# EAGLE library part UJ20-C-H-G-MSMT-R-4C-P16-TR (library UJ20-C-H-G-MSMT-R-4C-P16-TR)
UJ20-C-H-G-MSMT-R-4C-P16-TR - Type C, USB 2.0, 480 Mbps, 20 Vdc, 3 A, Horizontal, Mid Mount SMT, SMT Contacts, Gold Flash, Recessed Lip, 16 Pins, Ultra Low Profile 1.56mm, USB Receptacle Source: Datasheet <https://www.sameskydevices.com/product/resource/uj20-c-h-g-msmt-r-4c-p16-tr.pdf>
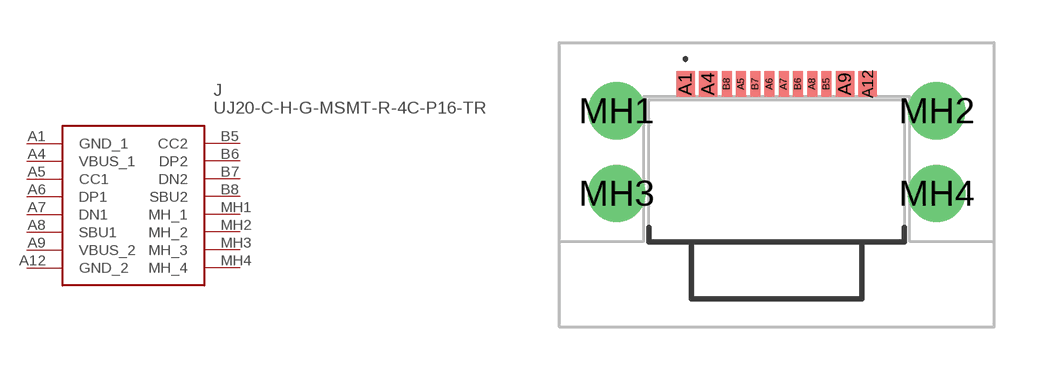
[diagram p0: symbol with the pads of UJ20CHGMSMTR4CP16TR; footprint UJ20CHGMSMTR4CP16TR]

Designator prefix J

## UJ20-C-H-G-MSMT-R-4C-P16-TR (Description: UJ20-C-H-G-MSMT-R-4C-P16-TR - Type C, USB 2.0, 480 Mbps, 20 Vdc, 3 A, Horizontal, Mid Mount SMT, SMT Contacts, Gold Flash, Recessed Lip, 16 Pins, Ultra Low Profile 1.56mm, USB Receptacle; Height: 3.36mm; Manufacturer_Name: Same Sky; Manufacturer_Part_Number: UJ20-C-H-G-MSMT-R-4C-P16-TR)  [UJ20CHGMSMTR4CP16TR]
A1  GND_1
A4  VBUS_1
A5  CC1
A6  DP1
A7  DN1
A8  SBU1
A9  VBUS_2
A12  GND_2
B5  CC2
B6  DP2
B7  DN2
B8  SBU2
MH1  MH_1
MH2  MH_2
MH3  MH_3
MH4  MH_4

## Footprint UJ20CHGMSMTR4CP16TR (pad centres in mm)
UJ20-C-H-G-MSMT-R-4C-P16-TR-3
smd 0.65 x 0.9: A1 -3.2,3.775; A4 -2.4,3.775; A9 2.4,3.775; A12 3.2,3.775
smd 0.35 x 0.9: A5 -1.25,3.775; A6 -0.25,3.775; A7 0.25,3.775; A8 1.25,3.775; B5 1.75,3.775; B6 0.75,3.775; B7 -0.75,3.775; B8 -1.75,3.775
drill 1.34 pad 2.01: MH1 -5.62,2.825; MH2 5.62,2.825; MH3 -5.62,-0.075; MH4 5.62,-0.075